# Altium footprint library CON 7X2_Ribbon.PcbLib: 1 footprints
Each footprint in its own frame and in the unit in brackets; x right, y up, seen from the top. Pads: shape width x height; smd on the part's side, far side on the other; paste and mask are expansions set on the pad; w line width, h text height; cw(c..) or ccw(c..) is an arc to the next point about the centre after c.
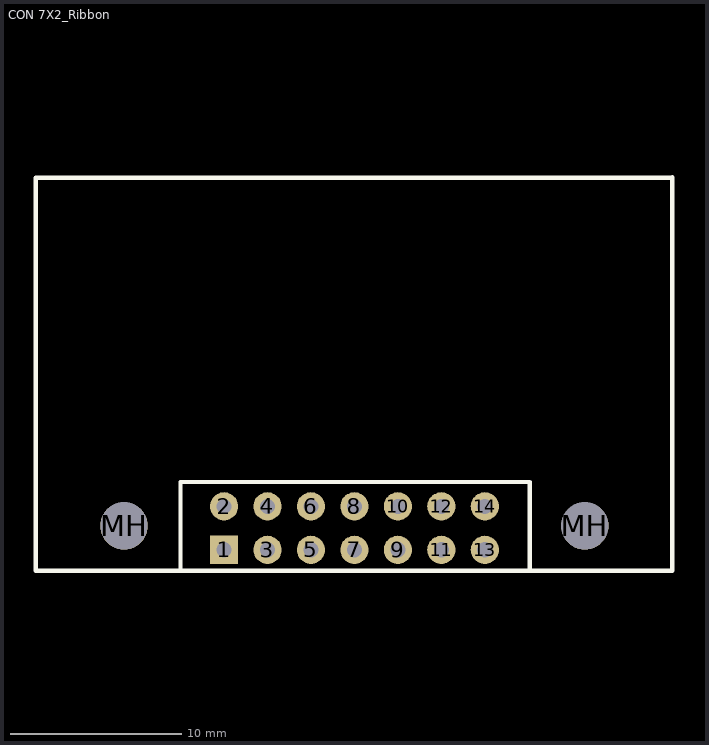
[diagram p0: the footprint, top view; thin cyan lines are the x and y axes]

## CON 7X2_Ribbon [mil] "Ribbon Connector"
pads (16):
  rect 65x65 hole 35: 1(-22665,-27360)
  round 65 hole 35: 2(-22665,-27260) 3(-22565,-27360) 4(-22565,-27260) 5(-22465,-27360) 6(-22465,-27260) 7(-22365,-27360) 8(-22365,-27260) 9(-22265,-27360) 10(-22265,-27260) 11(-22165,-27360) 12(-22165,-27260) 13(-22065,-27360) 14(-22065,-27260)
  round 109 hole 109: MH(-22895,-27305) MH(-21835,-27305)
Top Overlay:
  lines w10: -22765,-27402 -22765,-27204 -21994,-27204 -21962,-27204 -21962,-27407 ; -21636,-26504 -21662,-26504 -23098,-26504 -23098,-27096 -23098,-27115 -23098,-27408 -22759,-27408 -21634,-27408 -21634,-26516 -21634,-26503
3D body: height 357.32, standoff -107.24, extent -23095.31,-27408.98 -21634.68,-26501.89